# Altium schematic symbol library HEXCAL_SCH_LIB.SCHLIB: 102 symbols
Pins are listed as number, name and electrical type; pins without a type are passive.

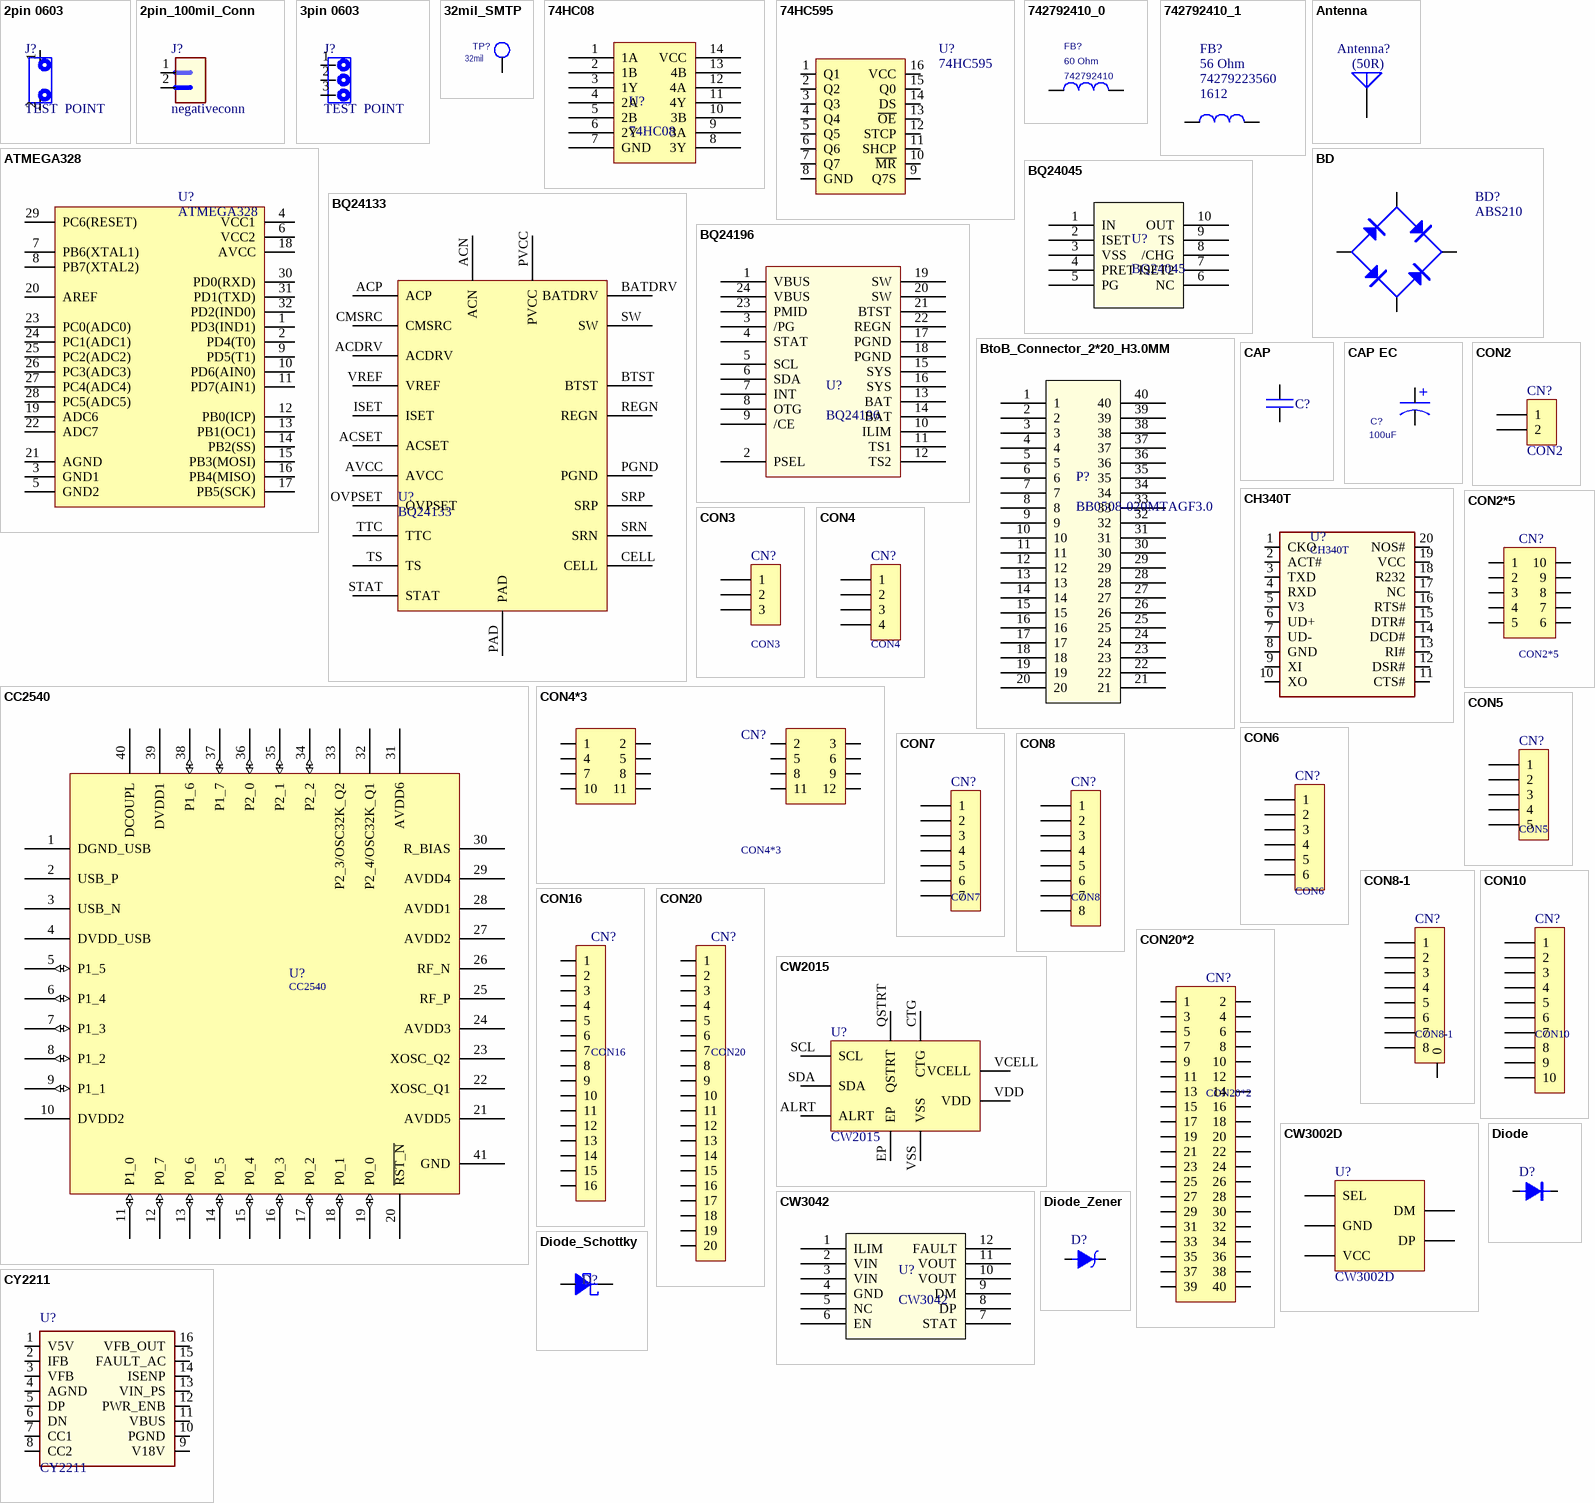
[diagram p0: symbols 2pin 0603 to Diode_Zener]

## 2pin 0603
designator J?, comment TEST  POINT
2 pin header
footprint 603
footprint negativeconn
pins: 1, 2

## 2pin_100mil_Conn
designator J?, comment negativeconn
100 mil 2 pin header
pins: 1, 2

## 3pin 0603
designator J?, comment TEST  POINT
3 pin header
pins: 1, 2, 3

## 32mil_SMTP
designator TP?, comment Name2: 32mil  (hidden comment: TP-ROUND-0)
Passive Probe Tip
footprint smr_32mil
footprint smr_32mil
pins: 1

## 74HC08
designator U?
And Gate
footprint TSOP65P640X120-14N (TSOP, 14-Leads, Body 5.00x4.40mm, Pitch 0.65mm, IPC Medium Density)
pins: 1 1A, 2 1B, 3 1Y, 4 2A, 5 2B, 6 2Y, 7 GND, 8 3Y, 9 3A, 10 3B, 11 4Y, 12 4A, 13 4B, 14 VCC

## 74HC595
designator U?
Diode Bridge
footprint SSOP16
pins: 1 Q1, 2 Q2, 3 Q3, 4 Q4, 5 Q5, 6 Q6, 7 Q7, 8 GND, 9 Q7S, 10 ~{MR}, 11 SHCP, 12 STCP, 13 ~{OE}, 14 DS, 15 Q0, 16 VCC
2 alternate drawings of the same symbol

## 742792410_0
designator FB?, comment 60 Ohm  MFRPN: 742792410
Ferrite bead/Impedance type filter; MFR: Wurth
footprint smfb1806
footprint smfb1806
pins: 1, 2

## 742792410_1
designator FB?, comment 56 Ohm  MFRPN: 74279223560  Package: 1612
Ferrite bead/Impedance type filter; MFR: Wurth
footprint smc1812
footprint sm1612
pins: 1, 2

## Antenna
designator Antenna?, comment (50R)
Generic Antenna; Published: 24-Mar-1999; LatestRevisionDate: 17-Jul-2002; LatestRevisionNote: Re-released for DXP Platform.; PackageReference: PIN1; Publisher: Altium Limited
footprint antenna_IIFA_1_left
pins: 1 A

## ATMEGA328
designator U?
Diode Bridge
pins: 1 PD3(IND1), 2 PD4(T0), 3 GND1, 4 VCC1, 5 GND2, 6 VCC2, 7 PB6(XTAL1), 8 PB7(XTAL2), 9 PD5(T1), 10 PD6(AIN0), 11 PD7(AIN1), 12 PB0(ICP), 13 PB1(OC1), 14 PB2(SS), 15 PB3(MOSI), 16 PB4(MISO), 17 PB5(SCK), 18 AVCC, 19 ADC6, 20 AREF, 21 AGND, 22 ADC7, 23 PC0(ADC0), 24 PC1(ADC1), 25 PC2(ADC2), 26 PC3(ADC3), 27 PC4(ADC4), 28 PC5(ADC5), 29 PC6(RESET), 30 PD0(RXD), 31 PD1(TXD), 32 PD2(IND0)
2 alternate drawings of the same symbol

## BD
designator BD?, comment ABS210
Diode Bridge
footprint BD-15*5
footprint BD-25*3.5
footprint BD-SMD
footprint SOP400P640X170-4N (SOP, 4-Leads, Body 5.05x4.40mm, Pitch 4.00mm, IPC Medium Density)
pins: 1 DC+, 2 DC-, 3 AC1, 4 AC2
2 alternate drawings of the same symbol

## BQ24045
designator U?
BQ24045DSQR
footprint QFN40P200X200X75_HS-11N (QFN, 10-Leads, Body 2.00x2.00mm, Pitch 0.40mm, Thermal Pad 0.70x1.20mm, IPC Medium Density)
pins: 1 IN, 2 ISET, 3 VSS, 4 PRET, 5 PG, 6 NC, 7 ISET2, 8 /CHG, 9 TS, 10 OUT, 11 hidden to GND

## BQ24133
designator U?
footprint TPS61088
pins: ACDRV, ACN, ACP, ACSET, AVCC, BATDRV, BTST, CELL, CMSRC, ISET, OVPSET, PAD, PGND, PVCC, REGN, SRN, SRP, STAT, SW, TS, TTC, VREF

## BQ24196
designator U?
footprint QFN24-BQ24196
pins: 1 VBUS, 2 PSEL, 3 /PG, 4 STAT, 5 SCL, 6 SDA, 7 INT, 8 OTG, 9 /CE, 10 ILIM, 11 TS1, 12 TS2, 13 BAT, 14 BAT, 15 SYS, 16 SYS, 17 PGND, 18 PGND, 19 SW, 20 SW, 21 BTST, 22 REGN, 23 PMID, 24 VBUS, 25 PGND hidden to GND

## BtoB_Connector_2*20_H3.0MM
designator P?, comment BB0508-020MTAGF3.0
Manufactory Part Number: BB0508-020MTAGF3.0
footprint BtoB_connector_2*20_3H
pins: 1, 2, 3, 4, 5, 6, 7, 8, 9, 10, 11, 12, 13, 14, 15, 16, 17, 18, 19, 20, 21, 22, 23, 24, 25, 26, 27, 28, 29, 30, 31, 32, 33, 34, 35, 36, 37, 38, 39, 40

## CAP
designator C?
Capacitor
footprint C0603
footprint C0402/1005
footprint C0603/1608
footprint C0402
footprint C0805
footprint C0805/2012
footprint C1206
footprint C1206/3216
footprint C1210
footprint C1210/3225
pins: 1, 2
2 alternate drawings of the same symbol

## CAP EC
designator C?, comment 100uF
Manufacturer Part Number: LHR101M1HF11VR5HTAAA; Tolerance: 20%; Value: EC-DIP
footprint EC-1016
footprint EC-1018
pins: 1, 2
text: +

## CC2540
designator U?
footprint SMD-0805
footprint SMD-0603
footprint SMD-2010
footprint SMC0402
pins: 1 DGND_USB, 2 USB_P, 3 USB_N, 4 DVDD_USB, 5 P1_5 (io), 6 P1_4 (io), 7 P1_3 (io), 8 P1_2 (io), 9 P1_1 (io), 10 DVDD2, 11 P1_0 (io), 12 P0_7 (io), 13 P0_6 (io), 14 P0_5 (io), 15 P0_4 (io), 16 P0_3 (io), 17 P0_2 (io), 18 P0_1 (io), 19 P0_0 (io), 20 ~{RST_N}, 21 AVDD5, 22 XOSC_Q1, 23 XOSC_Q2, 24 AVDD3, 25 RF_P, 26 RF_N, 27 AVDD2, 28 AVDD1, 29 AVDD4, 30 R_BIAS, 31 AVDD6, 32 P2_4/OSC32K_Q1, 33 P2_3/OSC32K_Q2, 34 P2_2 (io), 35 P2_1 (io), 36 P2_0 (io), 37 P1_7 (io), 38 P1_6 (io), 39 DVDD1, 40 DCOUPL, 41 GND
2 alternate drawings of the same symbol

## CH340T
designator U?
footprint SMD-0805
footprint SMD-0603
footprint SMD-2010
footprint SMC0402
pins: 1 CKO, 2 ACT#, 3 TXD, 4 RXD, 5 V3, 6 UD+, 7 UD-, 8 GND, 9 XI, 10 XO, 11 CTS#, 12 DSR#, 13 RI#, 14 DCD#, 15 DTR#, 16 RTS#, 17 NC, 18 R232, 19 VCC, 20 NOS#
2 alternate drawings of the same symbol

## CON2
designator CN?
footprint 220V_IN
pins: 1, 2
2 alternate drawings of the same symbol

## CON2*5
designator CN?
footprint SMT-SIP2*5
pins: 1, 2, 3, 4, 5, 6, 7, 8, 9, 10
2 alternate drawings of the same symbol

## CON3
designator CN?
footprint SIP4
pins: 1, 2, 3
2 alternate drawings of the same symbol

## CON4
designator CN?
footprint SIP4-1
pins: 1, 2, 3, 4
2 alternate drawings of the same symbol

## CON4*3
designator CN?
pins: 1, 2, 2, 3, 4, 5, 5, 6, 7, 8, 8, 9, 10, 11, 11, 12
2 alternate drawings of the same symbol

## CON5
designator CN?
footprint SIP5
pins: 1, 2, 3, 4, 5
2 alternate drawings of the same symbol

## CON6
designator CN?
footprint HDR2X3
pins: 1, 2, 3, 4, 5, 6
2 alternate drawings of the same symbol

## CON7
designator CN?
pins: 1, 2, 3, 4, 5, 6, 7
2 alternate drawings of the same symbol

## CON8
designator CN?
pins: 1, 2, 3, 4, 5, 6, 7, 8
2 alternate drawings of the same symbol

## CON8-1
designator CN?
pins: 0, 1, 2, 3, 4, 5, 6, 7, 8
2 alternate drawings of the same symbol

## CON10
designator CN?
pins: 1, 2, 3, 4, 5, 6, 7, 8, 9, 10
2 alternate drawings of the same symbol

## CON16
designator CN?
pins: 1, 2, 3, 4, 5, 6, 7, 8, 9, 10, 11, 12, 13, 14, 15, 16
2 alternate drawings of the same symbol

## CON20
designator CN?
pins: 1, 2, 3, 4, 5, 6, 7, 8, 9, 10, 11, 12, 13, 14, 15, 16, 17, 18, 19, 20
2 alternate drawings of the same symbol

## CON20*2
designator CN?
pins: 1, 2, 3, 4, 5, 6, 7, 8, 9, 10, 11, 12, 13, 14, 15, 16, 17, 18, 19, 20, 21, 22, 23, 24, 25, 26, 27, 28, 29, 30, 31, 32, 33, 34, 35, 36, 37, 38, 39, 40
2 alternate drawings of the same symbol

## CW2015
designator U?
pins: ALRT, CTG, EP, QSTRT, SCL, SDA, VCELL, VDD, VSS

## CW3002D
designator U?
footprint SOT-23-5
pins: DM, DP, GND, SEL, VCC

## CW3042
designator U?
USB Charging Controller with Current Limitation
footprint DFN3*3-12 (PSON, 12-Leads, Body 3.00x3.00mm, Pitch 0.45mm, Thermal Pad 2.50x1.55mm, IPC Medium Density)
pins: 1 ILIM, 2 VIN, 3 VIN, 4 GND, 5 NC, 6 EN, 7 STAT, 8 DP, 9 DM, 10 VOUT, 11 VOUT, 12 FAULT, 13 PGND hidden to GND

## CY2211
designator U?
footprint TSSOP16_CAN1106
footprint TSSOP16_CAN1106
pins: 1 V5V, 2 IFB, 3 VFB, 4 AGND, 5 DP, 6 DN, 7 CC1, 8 CC2, 9 V18V, 10 PGND, 11 VBUS, 12 PWR_ENB, 13 VIN_PS, 14 ISENP, 15 FAULT_AC, 16 VFB_OUT

## Diode
designator D?
footprint SOD-323F
pins: A, K

## Diode_Schottky
designator D?
footprint SOD-323F
pins: A, K

## Diode_Zener
designator D?
footprint SOD-323F
pins: A, K

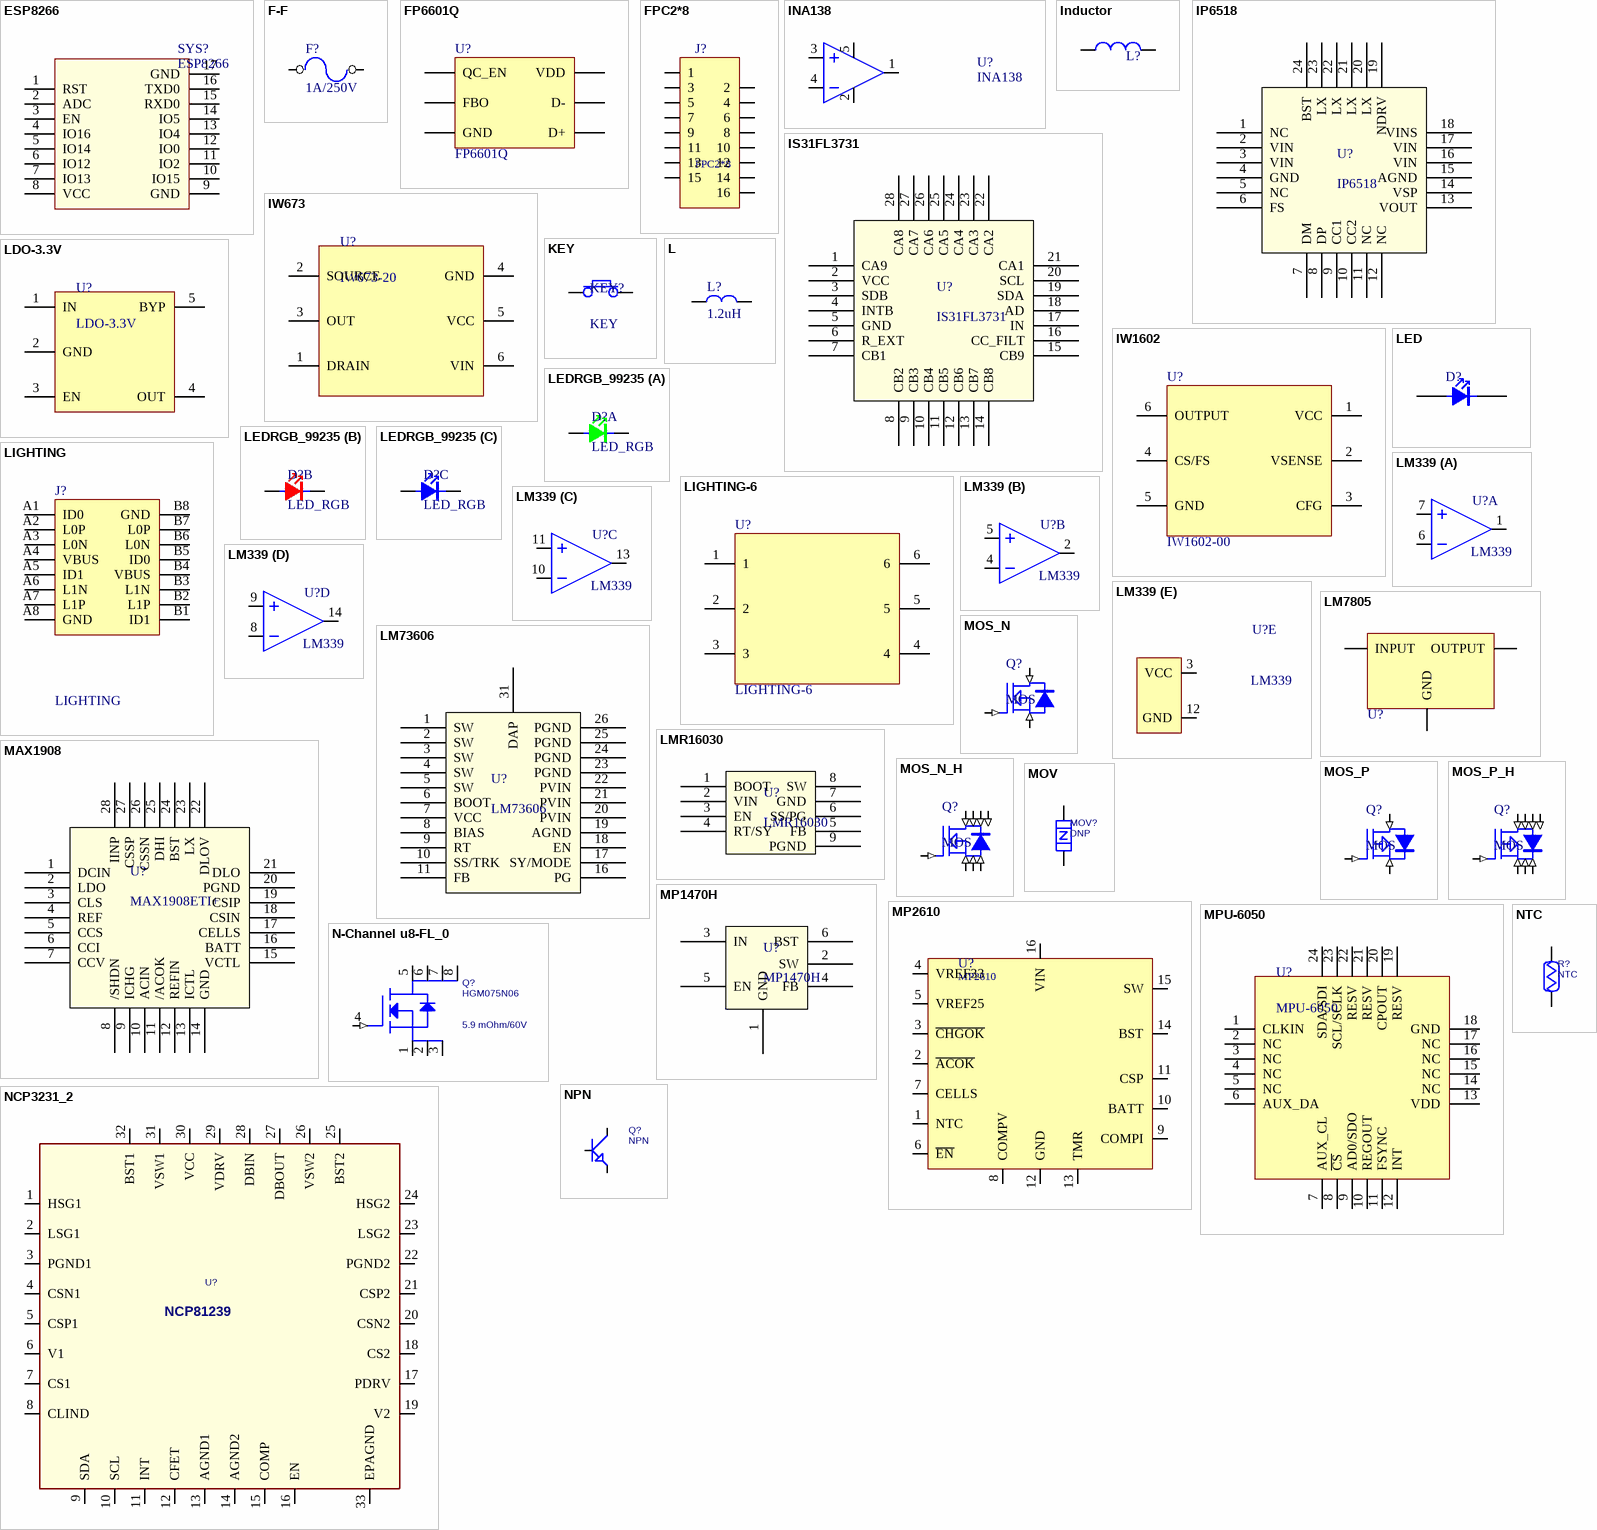
[diagram p1: symbols ESP8266 to NTC]

## ESP8266
designator SYS?
Module
footprint ESP8266
pins: 1 RST, 2 ADC, 3 EN, 4 IO16, 5 IO14, 6 IO12, 7 IO13, 8 VCC, 9 GND, 10 IO15, 11 IO2, 12 IO0, 13 IO4, 14 IO5, 15 RXD0, 16 TXD0, 17 GND
2 alternate drawings of the same symbol

## F-F
designator F?, comment 1A/250V
footprint 1808
pins: 1, 2
2 alternate drawings of the same symbol

## FP6601Q
designator U?
footprint SOT-23-6
pins: 1 D+, 2 GND, 3 FBO, 4 QC_EN, 5 VDD, 6 D-

## FPC2*8
designator J?
footprint FPC-16-M
pins: 1, 2, 3, 4, 5, 6, 7, 8, 9, 10, 11, 12, 13, 14, 15, 16
2 alternate drawings of the same symbol

## INA138
designator U?
Diode Bridge
footprint SOT-23-5
pins: 1 OUT, 2 GND, 3 IN+, 4 IN-, 5 VCC
2 alternate drawings of the same symbol

## Inductor
designator L?  (value not drawn)
Code_IEC: 1005; Published: 8-Jun-2000; LatestRevisionDate: 29-May-2009; LatestRevisionNote: IPC-7351 Footprint Added.; PackageReference: 0402-A; Publisher: Altium Limited; PackageDescription: Chip Inductor; Code_JEITA: 0402
footprint INDC4532 (Chip Inductor, Body 4.5x3.2mm, IPC High Density)
simulation model INDUCTOR (Inductor)
signal-integrity model Inductor
pins: 1, 2

## IP6518
designator U?
footprint QFN50P400X400X75_HS-25N (QFN, 24-Leads, Body 4.00x4.00mm, Pitch 0.50mm, Thermal Pad 2.50x2.50mm, IPC Medium Density)
pins: 1 NC, 2 VIN, 3 VIN, 4 GND, 5 NC, 6 FS, 7 DM, 8 DP, 9 CC1, 10 CC2, 11 NC, 12 NC, 13 VOUT, 14 VSP, 15 AGND, 16 VIN, 17 VIN, 18 VINS, 19 NDRV, 20 LX, 21 LX, 22 LX, 23 LX, 24 BST, 25 PGND hidden to GND

## IS31FL3731
designator U?
footprint QFN28-IS31FL3731
pins: 1 CA9, 2 VCC, 3 SDB, 4 INTB, 5 GND, 6 R_EXT, 7 CB1, 8 CB2, 9 CB3, 10 CB4, 11 CB5, 12 CB6, 13 CB7, 14 CB8, 15 CB9, 16 CC_FILT, 17 IN, 18 AD, 19 SDA, 20 SCL, 21 CA1, 22 CA2, 23 CA3, 24 CA4, 25 CA5, 26 CA6, 27 CA7, 28 CA8, 29 PGND hidden to GND

## IW673
designator U?, comment IW673-20
pins: 1 DRAIN, 2 SOURCE, 3 OUT, 4 GND, 5 VCC, 6 VIN

## IW1602
designator U?, comment IW1602-00
footprint SOT-23-6
pins: 1 VCC, 2 VSENSE, 3 CFG, 4 CS/FS, 5 GND, 6 OUTPUT

## KEY
designator KEY?
footprint KEY-2
pins: 1, 2

## L
designator L?, comment 1.2uH
footprint XENTRIS_IND_WURTH_10MMX10MM
footprint L-1709
pins: 1, 2

## LDO-3.3V
designator U?
footprint SOT-23-5
pins: 1 IN, 2 GND, 3 EN, 4 OUT, 5 BYP

## LED
designator D?
footprint LED0402
pins: A, K

## LEDRGB_99235
designator D?, comment LED_RGB
Manufacturer: Ever Light
footprint LED99-235
part A pins: 1 G-, 2 G+
part B pins: 3 R-, 4 R+
part C pins: 5 B-, 6 B+

## LIGHTING
designator J?
footprint TypeC-SMT
pins: A1 ID0, A2 L0P, A3 L0N, A4 VBUS, A5 ID1, A6 L1N, A7 L1P, A8 GND, B1 ID1, B2 L1P, B3 L1N, B4 VBUS, B5 ID0, B6 L0N, B7 L0P, B8 GND
2 alternate drawings of the same symbol

## LIGHTING-6
designator U?
footprint SOT-23-6
pins: 1, 2, 3, 4, 5, 6

## LM339
designator U?
footprint DIP14
footprint SOP14
footprint TSSOP-14
part A pins: 1 OUT, 6 IN-, 7 IN+
part B pins: 2 OUT, 4 IN-, 5 IN+
part C pins: 10 IN+, 11 IN-, 13 OUT
part D pins: 8 IN-, 9 IN+, 14 OUT
part E pins: 3 VCC, 12 GND

## LM7805
designator U?  (value not drawn)
footprint SOT-223
pins: GND, INPUT, OUTPUT

## LM73606
designator U?
3.5-V to 36-V, 5-A or 6-A Synchronous  Step-Down Voltage Converter
footprint PQFN50P400X600X80_HS-31N (PQFN, 30-Leads, Body 4.00x6.00mm, Pitch 0.50mm, Thermal Pad 2.20x4.60mm, IPC Medium Density)
pins: 1 SW, 2 SW, 3 SW, 4 SW, 5 SW, 6 BOOT, 7 VCC, 8 BIAS, 9 RT, 10 SS/TRK, 11 FB, 12 NC hidden to GND, 13 NC hidden to GND, 14 NC hidden to GND, 15 NC hidden to GND, 16 PG, 17 SY/MODE, 18 EN, 19 AGND, 20 PVIN, 21 PVIN, 22 PVIN, 23 PGND, 24 PGND, 25 PGND, 26 PGND, 27 NC hidden to GND, 28 NC hidden to GND, 29 NC hidden to GND, 30 NC hidden to GND, 31 DAP

## LMR16030
designator U?
60V/3A 降压转换器
footprint SOP127P600-8N
pins: 1 BOOT, 2 VIN, 3 EN, 4 RT/SY, 5 FB, 6 SS/PG, 7 GND, 8 SW, 9 PGND

## MAX1908
designator U?, comment MAX1908ETI+
MAX1908; Manufacture Part Number: MAX1908ETI+
footprint QFN50P500X500X75_HS-29N (QFN, 28-Leads, Body 5.00x5.00mm, Pitch 0.50mm, Thermal Pad 3.25x3.25mm, IPC Medium Density)
pins: 1 DCIN, 2 LDO, 3 CLS, 4 REF, 5 CCS, 6 CCI, 7 CCV, 8 /SHDN, 9 ICHG, 10 ACIN, 11 /ACOK, 12 REFIN, 13 ICTL, 14 GND, 15 VCTL, 16 BATT, 17 CELLS, 18 CSIN, 19 CSIP, 20 PGND, 21 DLO, 22 DLOV, 23 LX, 24 BST, 25 DHI, 26 CSSN, 27 CSSP, 28 IINP, 29 PGND hidden to GND

## MOS_N
designator Q?, comment MOS
footprint SOT23_MOS
pins: D (in), G (in), S (in)

## MOS_N_H
designator Q?, comment MOS
footprint DFN3.3*3.3_8L
pins: 1 (in), 2 (in), 3 (in), 4 (in), 5 (in), 6 (in), 7 (in), 8 (in)

## MOS_P
designator Q?, comment MOS
footprint SOT23_MOS
pins: D (in), G (in), S (in)

## MOS_P_H
designator Q?, comment MOS
footprint DFN3.3*3.3_8L
pins: 1 (in), 2 (in), 3 (in), 4 (in), 5 (in), 6 (in), 7 (in), 8 (in)

## MOV
designator MOV?, comment DNP
MOV
footprint SMR0402
pins: 1, 2

## MP1470H
designator U?
pins: 1 GND, 2 SW, 3 IN, 4 FB, 5 EN, 6 BST

## MP2610
designator U?
footprint SMD-0805
footprint SMD-0603
footprint SMD-2010
footprint SMC0402
pins: 1 NTC, 2 ~{ACOK}, 3 ~{CHGOK}, 4 VREF33, 5 VREF25, 6 ~{EN}, 7 CELLS, 8 COMPV, 9 COMPI, 10 BATT, 11 CSP, 12 GND, 13 TMR, 14 BST, 15 SW, 16 VIN
2 alternate drawings of the same symbol

## MPU-6050
designator U?
footprint SOT-23-3
footprint QFN-24
pins: 0 PGND hidden to GND, 1 CLKIN, 2 NC, 3 NC, 4 NC, 5 NC, 6 AUX_DA, 7 AUX_CL, 8 ~{CS}, 9 AD0/SDO, 10 REGOUT, 11 FSYNC, 12 INT, 13 VDD, 14 NC, 15 NC, 16 NC, 17 NC, 18 GND, 19 RESV, 20 CPOUT, 21 RESV, 22 RESV, 23 SCL/SCLK, 24 SDA/SDI

## N-Channel u8-FL_0
designator Q?, comment HGM075N06  value 5.9 mOhm/60V
Manufacturer PN: NTTFS4C08NTAG; Manufacturer: ON Semiconductor; Tolerance: %
footprint USMM_WDFN08_3P3X3P3X0P65P
footprint USMM_WDFN08_3P3X3P3X0P65P
pins: 1 SOURCE (power), 2 SOURCE (power), 3 SOURCE (power), 4 GATE (in), 5 DRAIN (power), 6 DRAIN (power), 7 DRAIN (power), 8 DRAIN (power)

## NCP3231_2
designator U?, comment NCP81239
CUSTOMER SUPPLIED
footprint USMM_QFN32R5X5
footprint usmm_qfn32r5x5
pins: 1 HSG1, 2 LSG1, 3 PGND1, 4 CSN1, 5 CSP1, 6 V1, 7 CS1, 8 CLIND, 9 SDA, 10 SCL, 11 INT, 12 CFET, 13 AGND1, 14 AGND2, 15 COMP, 16 EN, 17 PDRV, 18 CS2, 19 V2, 20 CSN2, 21 CSP2, 22 PGND2, 23 LSG2, 24 HSG2, 25 BST2, 26 VSW2, 27 DBOUT, 28 DBIN, 29 VDRV, 30 VCC, 31 VSW1, 32 BST1, 33 EPAGND

## NPN
designator Q?
Transistor
footprint SMR0402
pins: B, C, E

## NTC
designator R?
Resistor
footprint SMR0402
pins: 1, 2

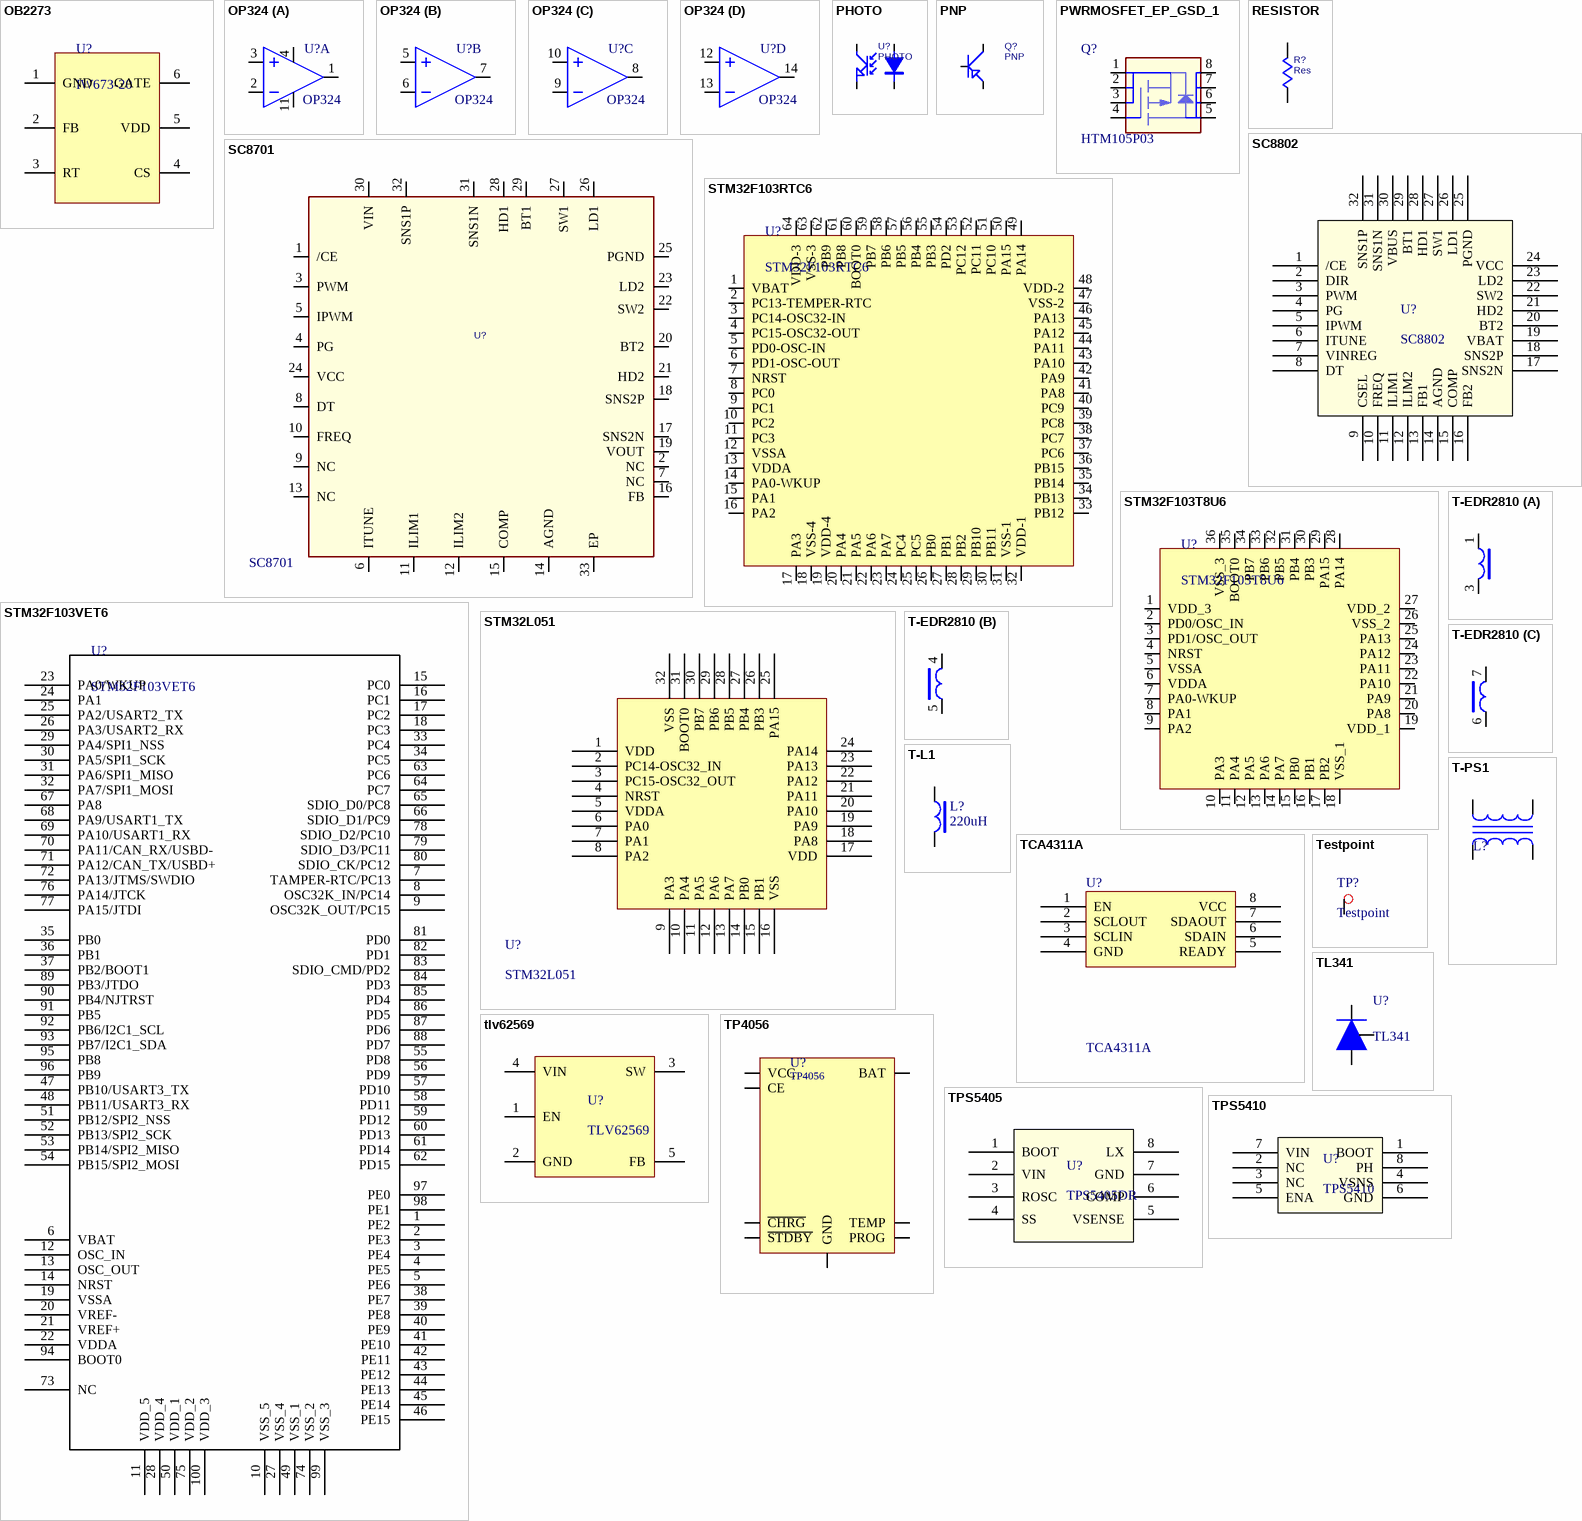
[diagram p2: symbols OB2273 to TPS5410]

## OB2273
designator U?, comment IW673-20
footprint SOT-23-6
pins: 1 GND, 2 FB, 3 RT, 4 CS, 5 VDD, 6 GATE

## OP324
designator U?
footprint DIP14
footprint SOP14
footprint TSSOP-14
part A pins: 1 OUT, 2 IN-, 3 IN+, 4 VCC, 11 GND
part B pins: 5 IN+, 6 IN-, 7 OUT
part C pins: 8 OUT, 9 IN+, 10 IN-
part D pins: 12 IN+, 13 IN-, 14 OUT

## PHOTO
designator U?
Resistor
footprint SOP4
pins: 1, 2, 3, 4

## PNP
designator Q?
Transistor
pins: B, C, E

## PWRMOSFET_EP_GSD_1
designator Q?, comment HTM105P03
Manufacturer Part Number: HTM105P03
footprint PDFN8_3X3P_NIKOSEM
pins: 1, 2, 3, 4, 5, 6, 7, 8

## RESISTOR
designator R?, comment Res
Resistor
footprint R0402/1005
footprint R0402
footprint R0603
footprint R0603/1608
footprint R0805
footprint R0805/2012
footprint R1206
footprint R1206/3216
pins: 1, 2

## SC8701
designator U?
CUSTOMER SUPPLIED; Manufacturer Part Number: SC8701
footprint USMM_QFN32R5X5
footprint usmm_qfn32r5x5
pins: 1 /CE, 2 NC, 3 PWM, 4 PG, 5 IPWM, 6 ITUNE, 7 NC, 8 DT, 9 NC, 10 FREQ, 11 ILIM1, 12 ILIM2, 13 NC, 14 AGND, 15 COMP, 16 FB, 17 SNS2N, 18 SNS2P, 19 VOUT, 20 BT2, 21 HD2, 22 SW2, 23 LD2, 24 VCC, 25 PGND, 26 LD1, 27 SW1, 28 HD1, 29 BT1, 30 VIN, 31 SNS1N, 32 SNS1P, 33 EP

## SC8802
designator U?
Battery Charge IC
footprint QFN40P400X400X75_HS-33N (QFN, 32-Leads, Body 4.00x4.00mm, Pitch 0.40mm, Thermal Pad 2.65x2.65mm, IPC Medium Density)
pins: 1 /CE, 2 DIR, 3 PWM, 4 PG, 5 IPWM, 6 ITUNE, 7 VINREG, 8 DT, 9 CSEL, 10 FREQ, 11 ILIM1, 12 ILIM2, 13 FB1, 14 AGND, 15 COMP, 16 FB2, 17 SNS2N, 18 SNS2P, 19 VBAT, 20 BT2, 21 HD2, 22 SW2, 23 LD2, 24 VCC, 25 PGND, 26 LD1, 27 SW1, 28 HD1, 29 BT1, 30 VBUS, 31 SNS1N, 32 SNS1P, 33 hidden to GND

## STM32F103RTC6
designator U?
Manufacturer Part Number: STM32F103VET6
footprint LQFP64
pins: 1 VBAT, 2 PC13-TEMPER-RTC, 3 PC14-OSC32-IN, 4 PC15-OSC32-OUT, 5 PD0-OSC-IN, 6 PD1-OSC-OUT, 7 NRST, 8 PC0, 9 PC1, 10 PC2, 11 PC3, 12 VSSA, 13 VDDA, 14 PA0-WKUP, 15 PA1, 16 PA2, 17 PA3, 18 VSS-4, 19 VDD-4, 20 PA4, 21 PA5, 22 PA6, 23 PA7, 24 PC4, 25 PC5, 26 PB0, 27 PB1, 28 PB2, 29 PB10, 30 PB11, 31 VSS-1, 32 VDD-1, 33 PB12, 34 PB13, 35 PB14, 36 PB15, 37 PC6, 38 PC7, 39 PC8, 40 PC9, 41 PA8, 42 PA9, 43 PA10, 44 PA11, 45 PA12, 46 PA13, 47 VSS-2, 48 VDD-2, 49 PA14, 50 PA15, 51 PC10, 52 PC11, 53 PC12, 54 PD2, 55 PB3, 56 PB4, 57 PB5, 58 PB6, 59 PB7, 60 BOOT0, 61 PB8, 62 PB9, 63 VSS-3, 64 VDD-3

## STM32F103T8U6
designator U?
Manufacturer Part Number: STM32F103VET6
footprint LQFP100
pins: 1 VDD_3, 2 PD0/OSC_IN, 3 PD1/OSC_OUT, 4 NRST, 5 VSSA, 6 VDDA, 7 PA0-WKUP, 8 PA1, 9 PA2, 10 PA3, 11 PA4, 12 PA5, 13 PA6, 14 PA7, 15 PB0, 16 PB1, 17 PB2, 18 VSS_1, 19 VDD_1, 20 PA8, 21 PA9, 22 PA10, 23 PA11, 24 PA12, 25 PA13, 26 VSS_2, 27 VDD_2, 28 PA14, 29 PA15, 30 PB3, 31 PB4, 32 PB5, 33 PB6, 34 PB7, 35 BOOT0, 36 VSS_3

## STM32F103VET6
designator U?
Manufacturer Part Number: STM32F103VET6
footprint SOT-23-3
footprint LQFP100
pins: 1 PE2, 2 PE3, 3 PE4, 4 PE5, 5 PE6, 6 VBAT, 7 TAMPER-RTC/PC13, 8 OSC32K_IN/PC14, 9 OSC32K_OUT/PC15, 10 VSS_5, 11 VDD_5, 12 OSC_IN, 13 OSC_OUT, 14 NRST, 15 PC0, 16 PC1, 17 PC2, 18 PC3, 19 VSSA, 20 VREF-, 21 VREF+, 22 VDDA, 23 PA0/WKUP, 24 PA1, 25 PA2/USART2_TX, 26 PA3/USART2_RX, 27 VSS_4, 28 VDD_4, 29 PA4/SPI1_NSS, 30 PA5/SPI1_SCK, 31 PA6/SPI1_MISO, 32 PA7/SPI1_MOSI, 33 PC4, 34 PC5, 35 PB0, 36 PB1, 37 PB2/BOOT1, 38 PE7, 39 PE8, 40 PE9, 41 PE10, 42 PE11, 43 PE12, 44 PE13, 45 PE14, 46 PE15, 47 PB10/USART3_TX, 48 PB11/USART3_RX, 49 VSS_1, 50 VDD_1, 51 PB12/SPI2_NSS, 52 PB13/SPI2_SCK, 53 PB14/SPI2_MISO, 54 PB15/SPI2_MOSI, 55 PD8, 56 PD9, 57 PD10, 58 PD11, 59 PD12, 60 PD13, 61 PD14, 62 PD15, 63 PC6, 64 PC7, 65 SDIO_D0/PC8, 66 SDIO_D1/PC9, 67 PA8, 68 PA9/USART1_TX, 69 PA10/USART1_RX, 70 PA11/CAN_RX/USBD-, 71 PA12/CAN_TX/USBD+, 72 PA13/JTMS/SWDIO, 73 NC, 74 VSS_2, 75 VDD_2, 76 PA14/JTCK, 77 PA15/JTDI, 78 SDIO_D2/PC10, 79 SDIO_D3/PC11, 80 SDIO_CK/PC12, 81 PD0, 82 PD1, 83 SDIO_CMD/PD2, 84 PD3, 85 PD4, 86 PD5, 87 PD6, 88 PD7, 89 PB3/JTDO, 90 PB4/NJTRST, 91 PB5, 92 PB6/I2C1_SCL, 93 PB7/I2C1_SDA, 94 BOOT0, 95 PB8, 96 PB9, 97 PE0, 98 PE1, 99 VSS_3, 100 VDD_3

## STM32L051
designator U?
footprint LQFP32 (TQFP, 32-Leads, Body 6.90x6.90mm, Pitch 0.80mm, IPC Medium Density)
pins: 1 VDD, 2 PC14-OSC32_IN, 3 PC15-OSC32_OUT, 4 NRST, 5 VDDA, 6 PA0, 7 PA1, 8 PA2, 9 PA3, 10 PA4, 11 PA5, 12 PA6, 13 PA7, 14 PB0, 15 PB1, 16 VSS, 17 VDD, 18 PA8, 19 PA9, 20 PA10, 21 PA11, 22 PA12, 23 PA13, 24 PA14, 25 PA15, 26 PB3, 27 PB4, 28 PB5, 29 PB6, 30 PB7, 31 BOOT0, 32 VSS

## T-EDR2810
designator T?  (value not drawn)
footprint EDR2810
part A pins: 1, 3
part B pins: 4, 5
part C pins: 6, 7
2 alternate drawings of the same symbol

## T-L1
designator L?, comment 220uH
footprint L-06015
footprint L-1709
footprint SLF6045
footprint L-6
pins: 1, 2

## T-PS1
designator L?
footprint T-PQ2620
footprint T-9.8
footprint L-9*5
pins: 1, 2, 3, 4

## TCA4311A
designator U?
footprint tssop8
pins: 1 EN, 2 SCLOUT, 3 SCLIN, 4 GND, 5 READY, 6 SDAIN, 7 SDAOUT, 8 VCC

## Testpoint
designator TP?
footprint TP_Pad
pins: 1

## TL341
designator U?
footprint SOT-23-TL431
pins: A, K, R

## tlv62569
designator U?, comment TLV62569
footprint SOT23-5-TLV62569 (SOT23, 5-Leads, Body 2.90x2.65mm, Pitch 0.95mm, IPC Medium Density)
pins: 1 EN, 2 GND, 3 SW, 4 VIN, 5 FB

## TP4056
designator U?
pins: 1 TEMP, 2 PROG, 3 GND, 4 VCC, 5 BAT, 6 ~{STDBY}, 7 ~{CHRG}, 8 CE
2 alternate drawings of the same symbol

## TPS5405
designator U?, comment TPS5405DR
Manufactory Part Num: TPS5405DR
footprint SOIC127P600X175-8N (SOIC, 8-Leads, Body 4.90x3.90mm, Pitch 1.27mm, IPC Medium Density)
pins: 1 BOOT, 2 VIN, 3 ROSC, 4 SS, 5 VSENSE, 6 COMP, 7 GND, 8 LX

## TPS5410
designator U?
footprint SOIC127P600X175-8N (SOIC, 8-Leads, Body 4.90x3.90mm, Pitch 1.27mm, IPC Medium Density)
pins: 1 BOOT, 2 NC, 3 NC, 4 VSNS, 5 ENA, 6 GND, 7 VIN, 8 PH

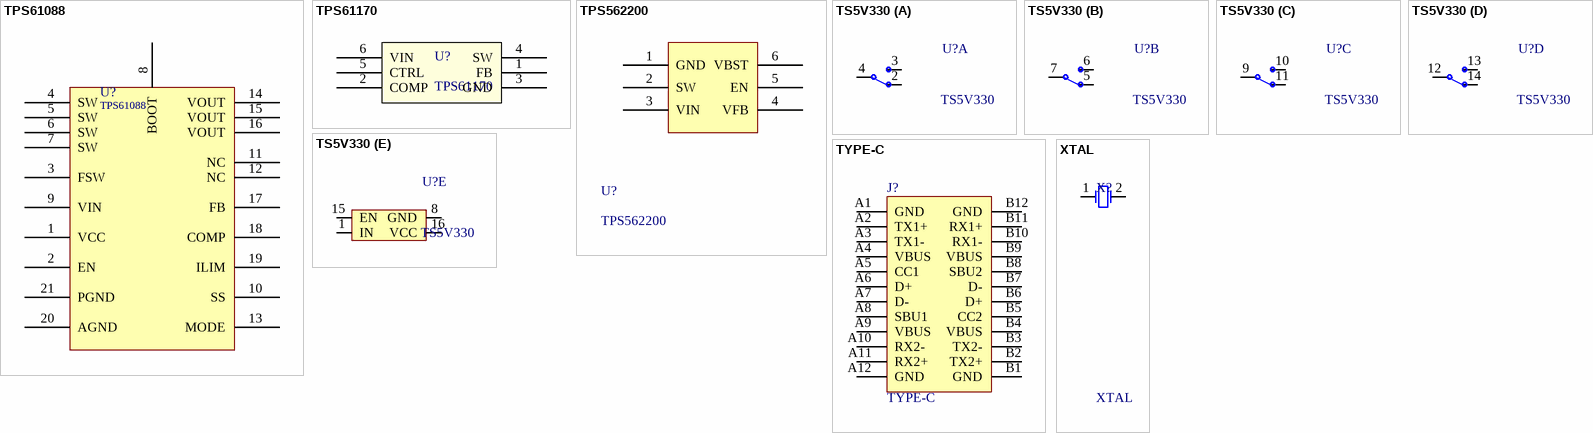
[diagram p3: symbols TPS61088 to XTAL]

## TPS61088
designator U?
footprint PVQFN-N20
pins: 1 VCC, 2 EN, 3 FSW, 4 SW, 5 SW, 6 SW, 7 SW, 8 BOOT, 9 VIN, 10 SS, 11 NC, 12 NC, 13 MODE, 14 VOUT, 15 VOUT, 16 VOUT, 17 FB, 18 COMP, 19 ILIM, 20 AGND, 21 PGND
2 alternate drawings of the same symbol

## TPS61170
designator U?
footprint SON65P200X80_HS-7N (SON, 6-Leads, Body 2.00x2.00mm, Pitch 0.65mm, Thermal Pad 1.60x0.89mm, IPC Medium Density)
pins: 1 FB, 2 COMP, 3 GND, 4 SW, 5 CTRL, 6 VIN

## TPS562200
designator U?
footprint SOT-23-6
pins: 1 GND, 2 SW, 3 VIN, 4 VFB, 5 EN, 6 VBST

## TS5V330
designator U?
footprint ssop16
part A pins: 2, 3, 4
part B pins: 5, 6, 7
part C pins: 9, 10, 11
part D pins: 12, 13, 14
part E pins: 1 IN, 8 GND, 15 EN, 16 VCC

## TYPE-C
designator J?
footprint TypeC-SMT
pins: A1 GND, A2 TX1+, A3 TX1-, A4 VBUS, A5 CC1, A6 D+, A7 D-, A8 SBU1, A9 VBUS, A10 RX2-, A11 RX2+, A12 GND, B1 GND, B2 TX2+, B3 TX2-, B4 VBUS, B5 CC2, B6 D+, B7 D-, B8 SBU2, B9 VBUS, B10 RX1-, B11 RX1+, B12 GND, H1 hidden to GND, H2 hidden to GND, H3 hidden to GND, H4 hidden to GND, H5 hidden to GND, H6 hidden to GND
2 alternate drawings of the same symbol

## XTAL
designator X?
footprint XTAL-3225
pins: 1 OSC1, 2 OSC2
2 alternate drawings of the same symbol